# Altium footprint library Lib.PcbLib: 31 footprints (part 2 of 2)
Each footprint in its own frame and in the unit in brackets; x right, y up, seen from the top. Pads: shape width x height; smd on the part's side, far side on the other; paste and mask are expansions set on the pad; w line width, h text height; cw(c..) or ccw(c..) is an arc to the next point about the centre after c.
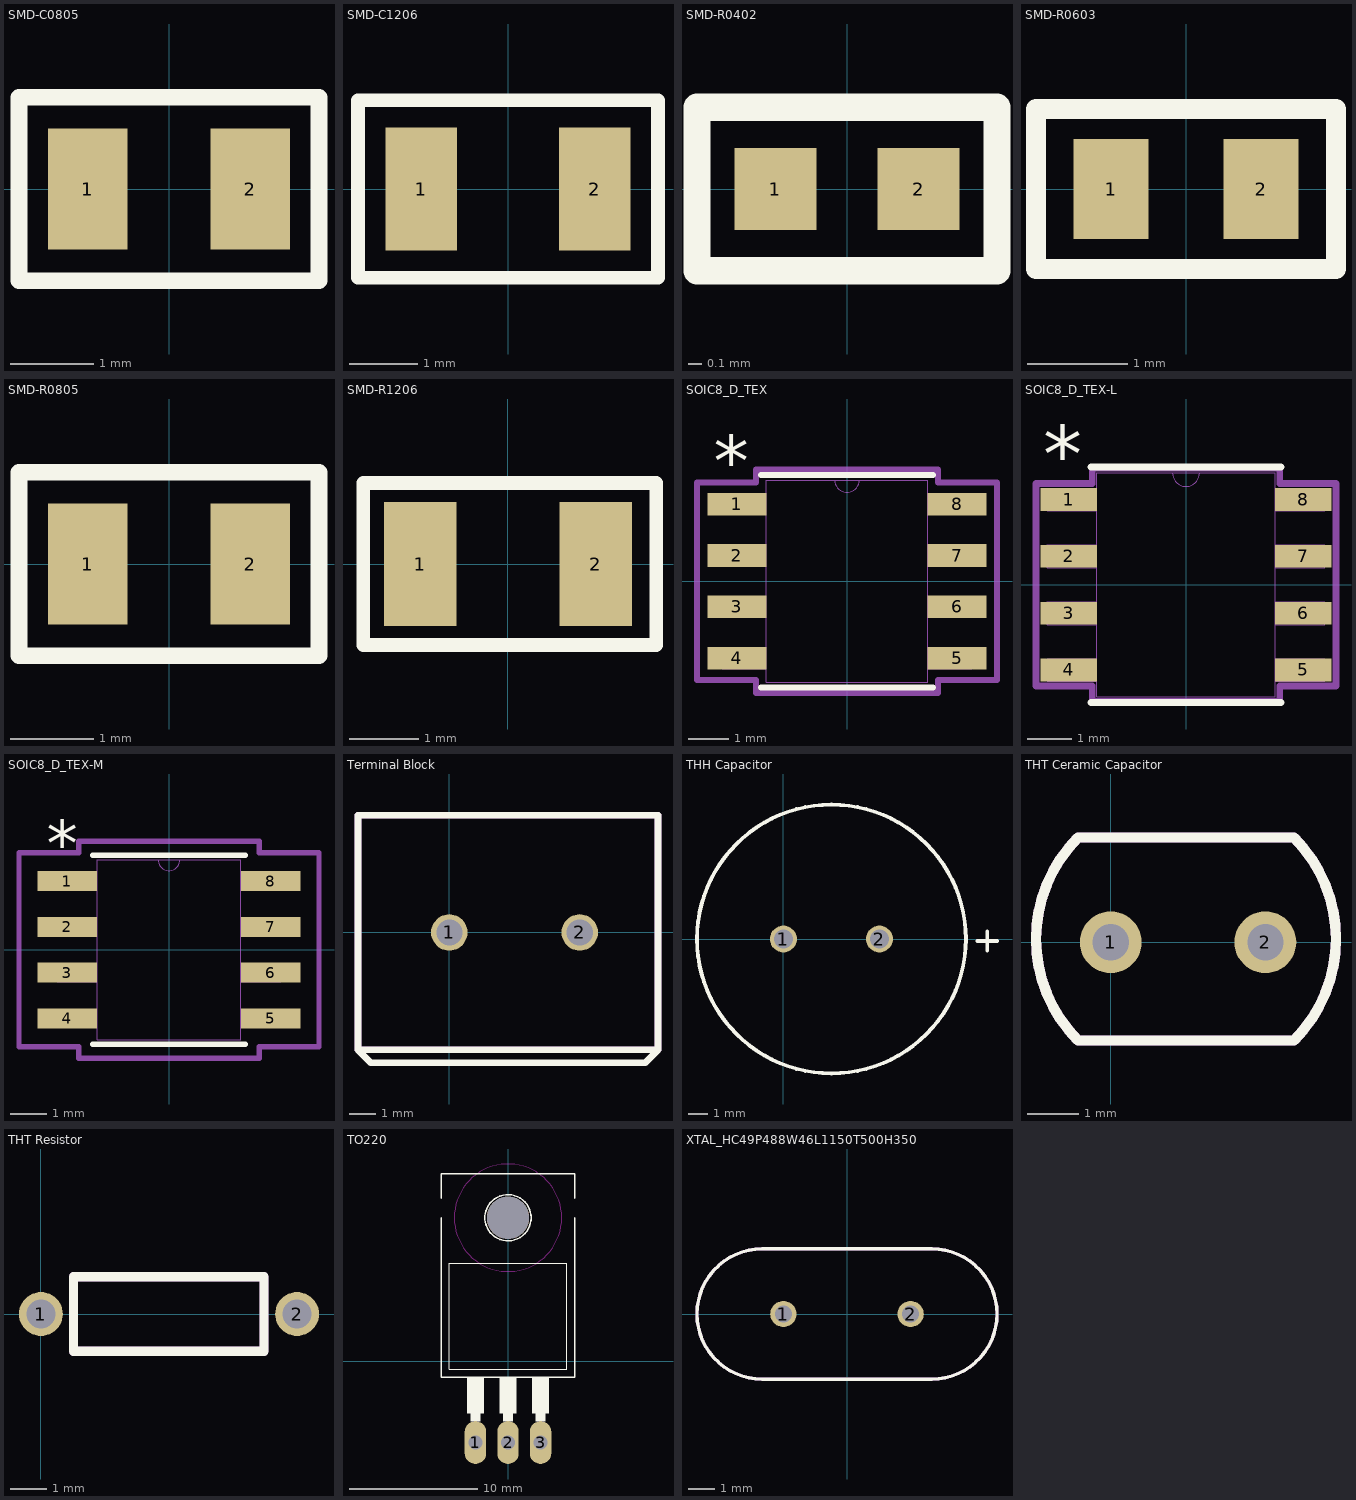
[diagram p1: the footprints below, top view; thin cyan lines are the x and y axes]

## SMD-C0805 [mm]
pads (2):
  rect 0.95x1.45 smd: 1(-0.975,0) 2(0.975,0)
Top Overlay:
  lines w0.2: -1.8,-1.1 -1.8,1.1 1.8,1.1 1.8,-1.1 -1.8,-1.1
Mechanical 29:
  text ".Designator" at -1.825,1.3 h1.52
3D body "C0805C103K1RAC7210.STEP": height 0.88, standoff 0, extent -1,-0.625 1,0.625

## SMD-C1206 [mm]
pads (2):
  rect 1.05x1.8 smd: 1(-1.275,0) 2(1.275,0)
Top Overlay:
  lines w0.2: -2.2,-1.3 -2.2,1.3 2.2,1.3 2.2,-1.3 -2.2,-1.3
Mechanical 29:
  text ".Designator" at -2.2,1.55 h1.52
3D body "C1206C103K1RAC7025.STEP": height 0.88, standoff 0, extent -1.6,-0.8 1.6,0.8

## SMD-R0402 [mm]
pads (2):
  rect 0.6x0.6 smd: 1(-0.525,0) 2(0.525,0)
Top Overlay:
  lines w0.2: -1.1,-0.6 1.1,-0.6 1.1,0.6 -1.1,0.6 -1.1,-0.6
Mechanical 29:
  text ".Designator" at -1.1,0.825 h1.52
3D body "RE0402FRE0710KL.STEP": height 0.37, standoff 0, extent -0.5,-0.25 0.5,0.25

## SMD-R0603 [mm]
pads (2):
  rect 0.75x1 smd: 1(-0.75,0) 2(0.75,0)
Top Overlay:
  lines w0.2: -1.5,-0.8 -1.5,0.8 1.5,0.8 1.5,-0.8 -1.5,-0.8
Mechanical 29:
  text ".Designator" at -1.6,1.075 h1.52
3D body "RE0603FRE0711K5L.STEP": height 0.55, standoff 0, extent -0.8,-0.4 0.8,0.4

## SMD-R0805 [mm]
pads (2):
  rect 0.95x1.45 smd: 1(-0.975,0) 2(0.975,0)
Top Overlay:
  lines w0.2: -1.8,-1.1 -1.8,1.1 1.8,1.1 1.8,-1.1 -1.8,-1.1
Mechanical 29:
  text ".Designator" at -1.925,1.35 h1.52
3D body "Y4062100R000Q0R.STEP": height 0.64, standoff 0, extent -1.015,-0.635 1.015,0.635

## SMD-R1206 [mm]
pads (2):
  rect 1.05x1.8 smd: 1(-1.275,0) 2(1.275,0)
Top Overlay:
  lines w0.2: -2.1,-1.175 2.15,-1.175 2.15,1.175 -2.1,1.175 -2.1,-1.175
Mechanical 29:
  text ".Designator" at -2.15,1.45 h1.52
3D body "CRCW12061K00JNEB.STEP": height 0.6, standoff 0, extent -1.6,-0.8 1.6,0.8

## SOIC8_D_TEX [mil]
pads (8):
  rect 57.5x22 smd paste+0 mask+0: 1(-107.25,75) 2(-107.25,25) 3(-107.25,-25) 4(-107.25,-75) 5(107.25,-75) 6(107.25,-25) 7(107.25,25) 8(107.25,75)
Top Overlay:
  lines w6: -83.5,-103.5 83.5,-103.5 ; -83.5,103.5 83.5,103.5
  text "*" at -129.75,92 h50
Mechanical 13:
  lines w0: -12,98.5 ccw(c0,98.5) 12,98.5
  lines w1: -122,-85 -78.5,-85 -78.5,-65 -122,-65 -122,-85 ; -122,-35 -78.5,-35 -78.5,-15 -122,-15 -122,-35 ; -122,15 -78.5,15 -78.5,35 -122,35 -122,15 ; -122,65 -78.5,65 -78.5,85 -122,85 -122,65 ; -78.5,-98.5 -78.5,98.5 78.5,98.5 78.5,-98.5 -78.5,-98.5 ; 78.5,-85 122,-85 122,-65 78.5,-65 78.5,-85 ; 78.5,-35 122,-35 122,-15 78.5,-15 78.5,-35 ; 78.5,15 122,15 122,35 78.5,35 78.5,15 ; 78.5,65 122,65 122,85 78.5,85 78.5,65
  text "*" at -76,45.5 h50
Mechanical 29:
  lines w6: -146,-96 -88.5,-96 -88.5,-108.5 88.5,-108.5 88.5,-96 146,-96 146,96 88.5,96 88.5,108.5 -88.5,108.5 -88.5,96 -146,96 -146,-96
  text ".Designator" at -100,0 h60
3D body "SOIC8_D_TEX.step": height 69.09, standoff 0, extent -122.01,-98.5 122.01,98.5

## SOIC8_D_TEX-L [mil]
pads (8):
  rect 49.5x20 smd paste+0 mask+0: 1(-103.25,75) 2(-103.25,25) 3(-103.25,-25) 4(-103.25,-75) 5(103.25,-75) 6(103.25,-25) 7(103.25,25) 8(103.25,75)
Top Overlay:
  lines w6: -83.5,-103.5 83.5,-103.5 ; -83.5,103.5 83.5,103.5
  text "*" at -125.75,90 h50
Mechanical 13:
  lines w0: -12,98.5 ccw(c0,98.5) 12,98.5
  lines w1: -122,-85 -78.5,-85 -78.5,-65 -122,-65 -122,-85 ; -122,-35 -78.5,-35 -78.5,-15 -122,-15 -122,-35 ; -122,15 -78.5,15 -78.5,35 -122,35 -122,15 ; -122,65 -78.5,65 -78.5,85 -122,85 -122,65 ; -78.5,-98.5 -78.5,98.5 78.5,98.5 78.5,-98.5 -78.5,-98.5 ; 78.5,-85 122,-85 122,-65 78.5,-65 78.5,-85 ; 78.5,-35 122,-35 122,-15 78.5,-15 78.5,-35 ; 78.5,15 122,15 122,35 78.5,35 78.5,15 ; 78.5,65 122,65 122,85 78.5,85 78.5,65
  text "*" at -76,45.5 h50
Mechanical 29:
  lines w6: -132,-89 -82.5,-89 -82.5,-102.5 82.5,-102.5 82.5,-89 132,-89 132,89 82.5,89 82.5,102.5 -82.5,102.5 -82.5,89 -132,89 -132,-89
  text ".Designator" at -100,0 h60
3D body "SOIC8_D_TEX.step": height 69.09, standoff 0, extent -122.01,-98.5 122.01,98.5

## SOIC8_D_TEX-M [mil]
pads (8):
  rect 65.5x22 smd paste+0 mask+0: 1(-111.25,75) 2(-111.25,25) 3(-111.25,-25) 4(-111.25,-75) 5(111.25,-75) 6(111.25,-25) 7(111.25,25) 8(111.25,75)
Top Overlay:
  lines w6: -83.5,-103.5 83.5,-103.5 ; -83.5,103.5 83.5,103.5
  text "*" at -133.75,92 h50
Mechanical 13:
  lines w0: -12,98.5 ccw(c0,98.5) 12,98.5
  lines w1: -122,-85 -78.5,-85 -78.5,-65 -122,-65 -122,-85 ; -122,-35 -78.5,-35 -78.5,-15 -122,-15 -122,-35 ; -122,15 -78.5,15 -78.5,35 -122,35 -122,15 ; -122,65 -78.5,65 -78.5,85 -122,85 -122,65 ; -78.5,-98.5 -78.5,98.5 78.5,98.5 78.5,-98.5 -78.5,-98.5 ; 78.5,-85 122,-85 122,-65 78.5,-65 78.5,-85 ; 78.5,-35 122,-35 122,-15 78.5,-15 78.5,-35 ; 78.5,15 122,15 122,35 78.5,35 78.5,15 ; 78.5,65 122,65 122,85 78.5,85 78.5,65
  text "*" at -76,45.5 h50
Mechanical 29:
  lines w6: -164,-106 -164,106 -98.5,106 -98.5,118.5 98.5,118.5 98.5,106 164,106 164,-106 98.5,-106 98.5,-118.5 -98.5,-118.5 -98.5,-106 -164,-106
  text ".Designator" at -100,0 h60
3D body "SOIC8_D_TEX.step": height 69.09, standoff 0, extent -122.01,-98.5 122.01,98.5

## Terminal Block [mm]
pads (2):
  round 1.4 hole 1: 1(0,0) 2(5,0)
Top Overlay:
  lines w0.254: -3.5,-4.5 -3.5,4 -3.5,4.5 8,4.5 8,-4.5 ; -3.5,-4.5 8,-4.5 ; -3.5,-4.5 -3,-5 7.5,-5 8,-4.5
Mechanical 29:
  lines w0.254: -3.5,-4.5 -3.5,4.5 8,4.5 8,-4.5 -3.5,-4.5
  text ".Designatot" at -3,2 h1.52
3D body "282837-2--3DModel-STEP-1.STEP": height 11.25, standoff -2.25, extent -3.175,-4.064 7.585,4.136

## THH Capacitor [mm]
pads (2):
  round 1.4 hole 1: 1(0,0) 2(5,0)
Top Overlay:
  circle w0.2: c2.5,0 r7
  lines w0.2: 10.105,-0.102 11.121,-0.102 ; 10.613,-0.61 10.613,0.406
Mechanical 29:
  text ".Designator" at -3.8,-2.575 h1.52
3D body "CAP_BX_10x20_RUB.step": height 22.01, standoff -4.37, extent -2.769,-5.245 7.745,5.245

## THT Ceramic Capacitor [mm]
pads (2):
  round 1.2 hole 0.7: 1(0,0) 2(3,0)
Top Overlay:
  lines w0.2: -0.635,-1.905 cw(c1.333,0.064) -0.635,2.032 3.556,2.032 cw(c1.587,0.064) 3.556,-1.905 -0.635,-1.905
Mechanical 29:
  lines w0.2: 3.492,-1.905 -0.635,-1.905 cw(c1.334,0.064) -0.635,2.032 3.492,2.032 ; 3.556,-1.905 ccw(c1.587,0.064) 3.556,2.032
  text ".Designatot" at -0.889,-1.27 h1.52
3D body "CAP_SR15_AVX.step": height 5.01, standoff -2.86, extent -0.381,-1.27 3.429,1.27

## THT Resistor [mm]
pads (2):
  round 1.2 hole 0.8: 1(0,0) 2(7,0)
Top Overlay:
  lines w0.254: 0.889,-1.016 0.889,1.016 6.096,1.016 6.096,-1.016 0.889,-1.016
Mechanical 29:
  lines w0.254: 0.889,-1.016 0.889,1.016 6.096,1.016 6.096,-1.016 0.889,-1.016
  text ".Designatot" at 1.143,-0.762 h1.52
3D body "RES_CFR12_3P4X1P9_YAG.step": height 1.9, standoff -2.54, extent -0.102,-0.95 7.102,0.951

## TO220 [mil]
pads (4):
  oval 66x132 hole 44: 1(-100,-250) 2(0,-250) 3(100,-250)
  round 130 hole 130 unplated: ""(0,440)
Top Overlay:
  circle w5: c0,440 r71
  region: 125,-160.18 75.08,-160.18 75.08,-50 125,-50
  region: 25,-160.22 -25.03,-160.22 -25.03,-50 25,-50
  region: -75,-160.28 -125.22,-160.28 -125.22,-50 -75,-50
  region: -85,-185.08 -115.05,-185.08 -115.05,-160 -85,-160
  region: 15,-185.09 -15.01,-185.09 -15.01,-160 15,-160
  region: 115,-185.06 85.03,-185.06 85.03,-160 115,-160
  lines w2: -180,-25 -180,300 180,300 180,-25 -180,-25
  lines w5: -205,440 -205,-50 205,-50 205,440 ; -205,500 -205,575 205,575 205,500
Keep-Out Layer:
  circle w0: c0,440 r165
  circle w0: c0,440 r165
Mechanical 29:
  text "3" at 75.02,0 h50.01
  text "2" at -25.04,0 h50.08
  text "1" at -125.24,0 h50.1
  text ".Designator" at -198.82,85.63 h60
3D body "LM7805--3DModel-STEP-56544.STEP": height 958.15, standoff -196.85, extent -200,-317.49 200,-137.49

## XTAL_HC49P488W46L1150T500H350 [mm]
pads (2):
  round 1.007 hole 0.657: 1(-2.44,0) 2(2.44,0)
Top Overlay:
  lines w0.127: -5.75,0 ccw(c-3.25,0) -3.25,-2.5 3.25,-2.5 ccw(c3.25,0) 5.75,0 ccw(c3.25,0) 3.25,2.5 -3.25,2.5 ccw(c-3.25,0) -5.75,0
Mechanical 29:
  lines w0.127: -5.75,0 ccw(c-3.25,0) -3.25,-2.5 3.25,-2.5 ccw(c3.25,0) 5.75,0 ccw(c3.25,0) 3.25,2.5 -3.25,2.5 ccw(c-3.25,0) -5.75,0
  text ".Designator" at -5.625,-1.125 h1.52
3D body "step_temp.STEP": height 3.25, standoff -5.75, extent -5.75,-2.5 5.75,2.5